# Altium integrated library NOIP1SN0500A.IntLib: 1 symbol
Pins are listed as number, name and electrical type; pins without a type are passive.

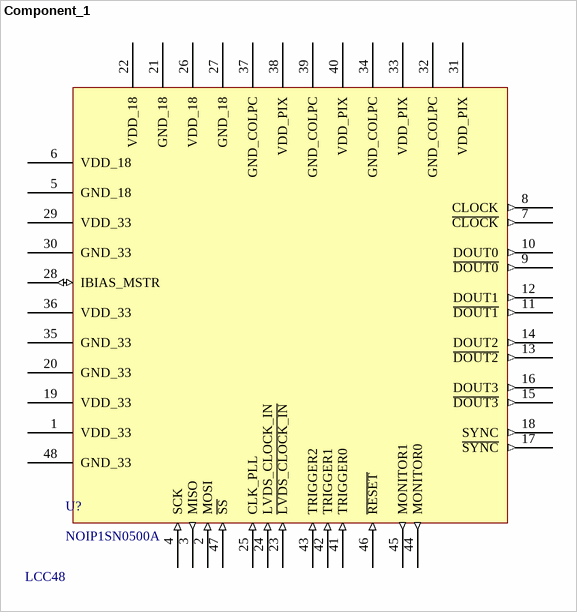
[diagram p0: symbol Component_1]

## Component_1
designator U?, comment NOIP1SN0500A  package type: LCC48
Python camera sensor. Having pixel output of 500 by 600.; Part No.: NOIP1SN0500A-QDI; Manufactured by: OnSemi; Designer: Faheem; Company: PhasePhotonics; Data Sheet URL:: https://www.onsemi.com/pub/Collateral/NOIP1SN1300A-D.PDF; Buying URL:: https://uk.farnell.com/on-semiconductor/noip1sn0500a-qdi/image-sensor-rbg-800-x-600-lcc/dp/2727907?ost=NOIP1SN0500A&ddkey=https%3Aen-GB%2FElement14_United_Kingdom%2Fsearch; Package Type: LCC. required LCC socket as well.; Date Created: 04/02/2019; PCB footprint download: https://www.snapeda.com/parts/NOIP1SN0500A-QDI/ON%20Semiconductor/view-part/?ref=search&t=NOIP1SN0500A; 3D Model: http://www.3dcontentcentral.com/secure/download-model.aspx?catalogid=171&id=343978
footprint LCC101P1430X1430X228-48N
pins: 1 VDD_33 (power) "3.3V Supply.", 2 MOSI (in) "SPI master out slave in.", 3 MISO (out) "SPI master in slave out.", 4 SCK (in) "SPI Clock.", 5 GND_18 (power) "Ground for 1.8 v supply.", 6 VDD_18 (power) "VDD 1.8 v supply.", 7 ~{CLOCK} (out) "LVDS Data syncronized clock (-ve).", 8 CLOCK (out) "LVDS Data syncronized clock (Positive).", 9 ~{DOUT0} (out) "LVDS Data Output Channel #0 (-ve).", 10 DOUT0 (out) "LVDS Data Output Channel #0 (Positive).", 11 ~{DOUT1} (out) "LVDS Data Output Channel #1 (-ve).", 12 DOUT1 (out) "LVDS Data Output Channel #1 (Positive).", 13 ~{DOUT2} (out) "LVDS Data Output Channel #2 (-ve).", 14 DOUT2 (out) "LVDS Data Output Channel #2 (Positive).", 15 ~{DOUT3} (out) "LVDS Data Output Channel #3 (-ve).", 16 DOUT3 (out) "LVDS Data Output Channel #3 (Positive).", 17 ~{SYNC} (out) "LVDS Sync Channel Output (Negative).", 18 SYNC (out) "LVDS Sync Channel Output (Positive)", 19 VDD_33 (power) "3.3V Supply.", 20 GND_33 (power) "3.3V Supply.", 21 GND_18 (power) "Ground for 1.8 v supply.", 22 VDD_18 (power) "VDD 1.8 v supply.", 23 ~{LVDS_CLOCK_}~{IN} (in) "LVDS clock input (positive).", 24 LVDS_CLOCK_IN (in) "LVDS clock input (-ve).", 25 CLK_PLL (in) "PLL input clock", 26 VDD_18 (power) "VDD 1.8 v supply.", 27 GND_18 (power) "Ground for 1.8 v supply.", 28 IBIAS_MSTR (io) "Master Bias Reference. Connect with 47k to gnd_33.", 29 VDD_33 (power) "3.3V Supply.", 30 GND_33 (power) "3.3V Supply.", 31 VDD_PIX (power) "Pixel power supply.", 32 GND_COLPC (power) "Pixel array ground.", 33 VDD_PIX (power) "Pixel power supply.", 34 GND_COLPC (power) "Pixel array ground.", 35 GND_33 (power) "Ground for 3.3 V.", 36 VDD_33 (power) "3.3V Supply.", 37 GND_COLPC (power) "Pixel array ground.", 38 VDD_PIX (power) "Pixel power supply.", 39 GND_COLPC (power) "Pixel array ground.", 40 VDD_PIX (power) "Pixel power supply.", 41 TRIGGER0 (in) "Trigger input.", 42 TRIGGER1 (in) "Trigger input.", 43 TRIGGER2 (in) "Trigger input.", 44 MONITOR0 (out) "Monitor output 0.", 45 MONITOR1 (out) "Monitor output 0.", 46 ~{RESET} (in) "Sensor reset.", 47 ~{SS} (in) "SPI slave select.", 48 GND_33 (power) "Ground for 3.3 V."